# Altium footprint library PCB - LEADLESS - QFN - TOSHIBA P-WQFN48-0707-0.PcbLib: 1 footprints
Each footprint in its own frame and in the unit in brackets; x right, y up, seen from the top. Pads: shape width x height; smd on the part's side, far side on the other; paste and mask are expansions set on the pad; w line width, h text height; cw(c..) or ccw(c..) is an arc to the next point about the centre after c.
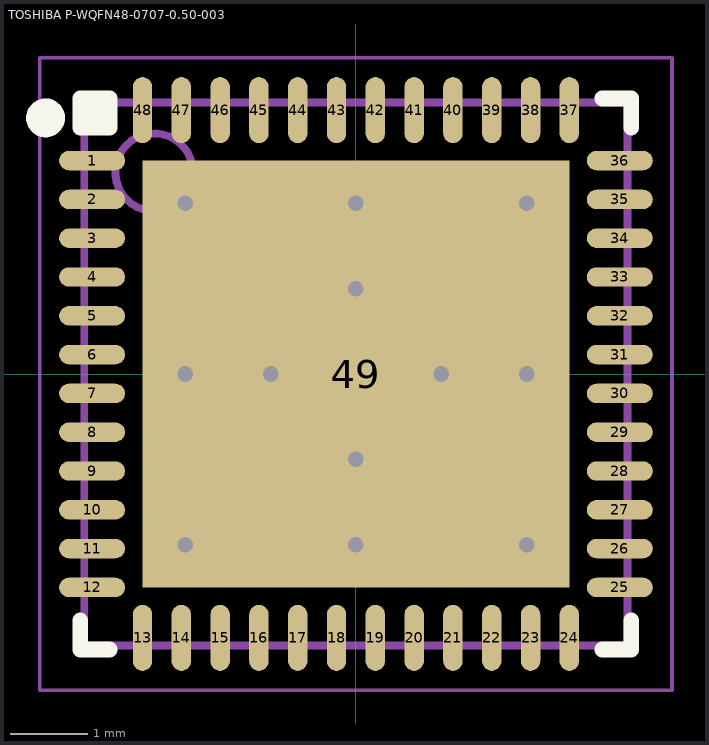
[diagram p0: the footprint, top view; thin cyan lines are the x and y axes]

## TOSHIBA P-WQFN48-0707-0.50-003 [mm] "WQFN, 48-Leads, Body 7.00x7.00mm, Pitch 0.50mm, Thermal Pad 5.50x5.50mm, IPC Medium Density"
height 0.75
pads (49):
  oval 0.85x0.25 smd: 1(-3.4,2.75) 2(-3.4,2.25) 3(-3.4,1.75) 4(-3.4,1.25) 5(-3.4,0.75) 6(-3.4,0.25) 7(-3.4,-0.25) 8(-3.4,-0.75) 9(-3.4,-1.25) 10(-3.4,-1.75) 11(-3.4,-2.25) 12(-3.4,-2.75) 25(3.4,-2.75) 26(3.4,-2.25) 27(3.4,-1.75) 28(3.4,-1.25) 29(3.4,-0.75) 30(3.4,-0.25) 31(3.4,0.25) 32(3.4,0.75) 33(3.4,1.25) 34(3.4,1.75) 35(3.4,2.25) 36(3.4,2.75)
  oval 0.25x0.85 smd: 13(-2.75,-3.4) 14(-2.25,-3.4) 15(-1.75,-3.4) 16(-1.25,-3.4) 17(-0.75,-3.4) 18(-0.25,-3.4) 19(0.25,-3.4) 20(0.75,-3.4) 21(1.25,-3.4) 22(1.75,-3.4) 23(2.25,-3.4) 24(2.75,-3.4) 37(2.75,3.4) 38(2.25,3.4) 39(1.75,3.4) 40(1.25,3.4) 41(0.75,3.4) 42(0.25,3.4) 43(-0.25,3.4) 44(-0.75,3.4) 45(-1.25,3.4) 46(-1.75,3.4) 47(-2.25,3.4) 48(-2.75,3.4)
  rect 5.5x5.5 smd paste-10 mask+0.102: 49(0,0)
via 2.2,-2.2 diameter 0.5 hole 0.2
via 0,-2.2 diameter 0.5 hole 0.2
via -2.2,-2.2 diameter 0.5 hole 0.2
via 2.2,0 diameter 0.5 hole 0.2
via -2.2,0 diameter 0.5 hole 0.2
via 2.2,2.2 diameter 0.5 hole 0.2
via 0,2.2 diameter 0.5 hole 0.2
via -2.2,2.2 diameter 0.5 hole 0.2
via 0,-1.1 diameter 0.5 hole 0.2
via 1.1,0 diameter 0.5 hole 0.2
via -1.1,0 diameter 0.5 hole 0.2
via 0,1.1 diameter 0.5 hole 0.2
Top Overlay:
  circle w0.25: c-4,3.3 r0.125
  rectangle: -3.6,3.175 -3.1,3.486
  lines w0.2: -3.55,-3.175 -3.55,-3.55 -3.175,-3.55 ; 3.175,-3.55 3.55,-3.55 3.55,-3.175 ; 3.175,3.55 3.55,3.55 3.55,3.175 ; -3.55,3.175 -3.55,3.55 -3.175,3.55 -3.175,3.175 -3.55,3.175
Top Paste:
  region: 1.75,-2.75 1.75,-2.25 1.76,-2.152 1.834,-1.972 1.972,-1.834 2.152,-1.76 2.25,-1.75 2.75,-1.75 2.75,-0.5 1,-0.5 0.901,-0.5 0.717,-0.576 0.576,-0.717 0.5,-0.901 0.5,-1 0.5,-2.75
  region: -1.75,-2.75 -1.75,-2.25 -1.76,-2.152 -1.834,-1.972 -1.972,-1.834 -2.152,-1.76 -2.25,-1.75 -2.75,-1.75 -2.75,-0.5 -1,-0.5 -0.901,-0.5 -0.717,-0.576 -0.576,-0.717 -0.5,-0.901 -0.5,-1 -0.5,-2.75
  region: 1.75,2.75 1.75,2.25 1.76,2.152 1.834,1.972 1.972,1.834 2.152,1.76 2.25,1.75 2.75,1.75 2.75,0.5 1,0.5 0.901,0.5 0.717,0.576 0.576,0.717 0.5,0.901 0.5,1 0.5,2.75
  region: 0,0.5 -0.099,0.5 -0.283,0.424 -0.424,0.283 -0.5,0.099 -0.5,0 -0.5,-0.099 -0.424,-0.283 -0.283,-0.424 -0.099,-0.5 0,-0.5 0.099,-0.5 0.283,-0.424 0.424,-0.283 0.5,-0.099 0.5,0 0.5,0.099 0.424,0.283 0.283,0.424 0.099,0.5
  region: -1.75,2.75 -1.75,2.25 -1.76,2.152 -1.834,1.972 -1.972,1.834 -2.152,1.76 -2.25,1.75 -2.75,1.75 -2.75,0.5 -1,0.5 -0.901,0.5 -0.717,0.576 -0.576,0.717 -0.5,0.901 -0.5,1 -0.5,2.75
Top Solder:
  drawing of 28 lines, arcs and shapes, not listed
Mechanical 13:
  circle w0.1: c-2.6,2.6 r0.5
  lines w0.1: -3.5,-3.5 3.5,-3.5 3.5,3.5 -3.5,3.5 -3.5,-3.5
Mechanical 15:
  lines w0.05: -4.075,-4.075 4.075,-4.075 4.075,4.075 -4.075,4.075 -4.075,-4.075
  lines w0.1: -0.5,0 0.5,0 ; 0,-0.5 0,0.5
3D body "TOSHIBA P-WQFN48-0707-0.50-003.step": height 0.75, standoff 0, extent -3.501,-3.501 3.501,3.501